# Altium integrated library ABM8G-12.288MHZ-18-D2Y-T.IntLib: 1 symbol
Pins are listed as number, name and electrical type; pins without a type are passive.

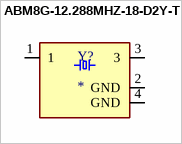
[diagram p0: symbol ABM8G-12.288MHZ-18-D2Y-T]

## ABM8G-12.288MHZ-18-D2Y-T
designator Y?
Crystal 20MHz Ã‚Â±20ppm (Tol) Ã‚Â±30ppm (Stability) 18pF FUND 80Ohm 4-Pin Mini-CSMD T/R; MP: ABM8G-12.288MHZ-18-D2Y-T; Package: None; Price: None; Value: *; Availability: Unavailable
footprint OSCSC320X250X100N
pins: 1, 2 GND (power), 3, 4 GND (power)